# Altium footprint library my_lib.PcbLib: 9 footprints
Each footprint in its own frame and in the unit in brackets; x right, y up, seen from the top. Pads: shape width x height; smd on the part's side, far side on the other; paste and mask are expansions set on the pad; w line width, h text height; cw(c..) or ccw(c..) is an arc to the next point about the centre after c.
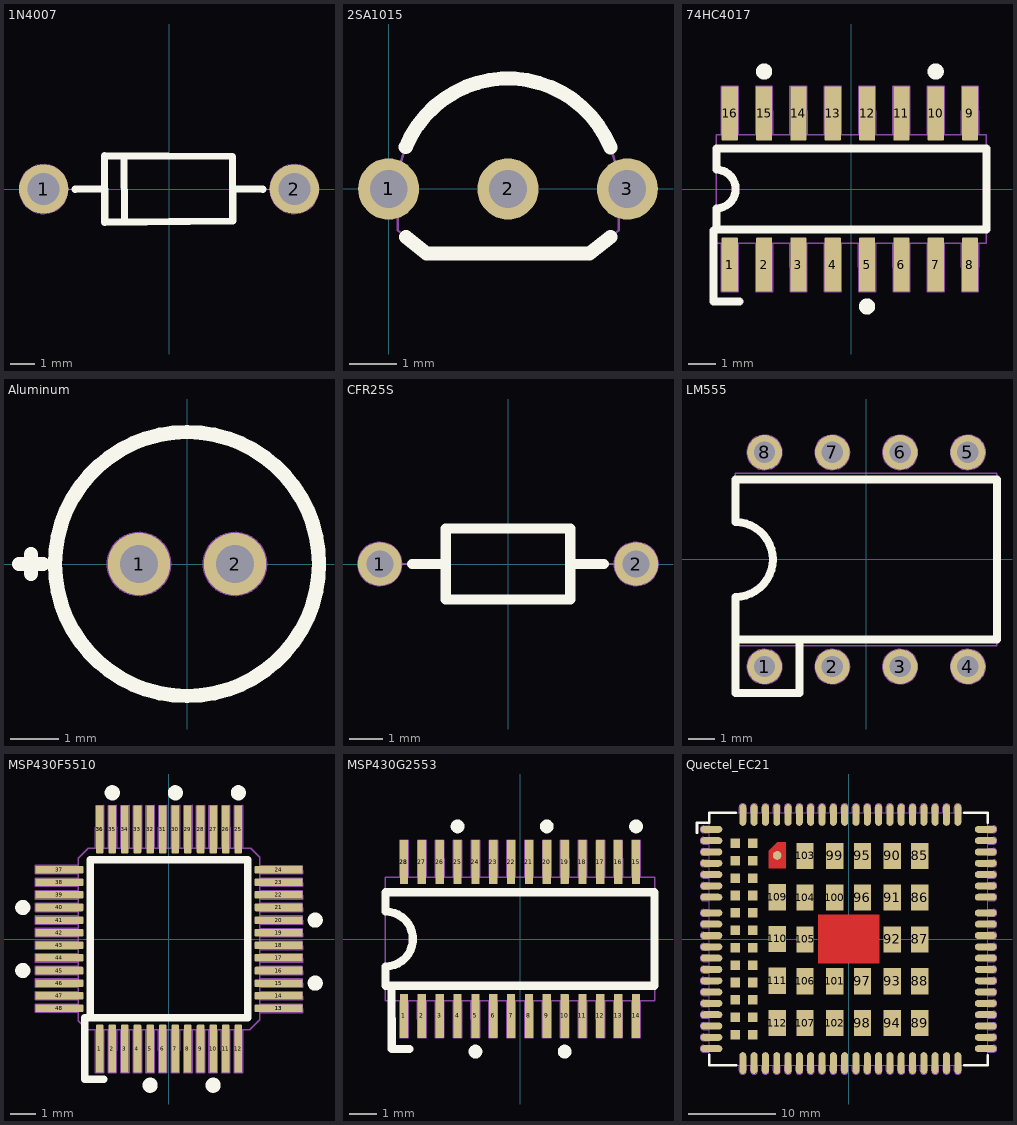
[diagram p0: the footprints below, top view; thin cyan lines are the x and y axes]

## 1N4007 [mm] "diode"
height 2.7
pads (2):
  round 2 hole 1.3 mask+0.1: 1(-5.08,0) 2(5.08,0)
Top Overlay:
  lines w0.3: -3.8,-0.015 -2.608,0.003 ; -1.825,1.295 -1.805,-1.26 ; 2.58,0.012 3.8,-0.015 ; -2.615,1.355 2.575,1.32 2.585,-1.295 -2.6,-1.35 -2.615,1.355
Top Hinh chieu bang:
  circle w0.05: c5.08,0 r1
  circle w0.05: c5.08,0 r1
  circle w0.05: c-5.08,0 r1
  lines w0.05: -4.08,0 -2.6,0 ; 2.6,0 4.08,-0.005 ; -2.6,-1.35 2.6,-1.35 2.6,1.35 -2.6,1.35 -2.6,-1.35
3D body "1N4007--3DModel-STEP-1150514.STEP": height 2.89, standoff -4.07, extent -5.475,-1.305 5.47,1.295

## 2SA1015 [mm] "TO-92"
height 4.7
pads (4):
  round 1.3 hole 0.8 mask+0.1: 1(0,0) 1(0,0) 2(2.54,0) 3(5.08,0)
Top Overlay:
  lines w0.3: 0.365,0.89 cw(c2.54,0) 4.718,0.882 ; 0.37,-1.022 0.809,-1.376 4.276,-1.376 4.718,-1.022
Top Hinh chieu bang:
  lines w0.05: 0.19,0 cw(c2.54,0) 4.89,0 4.895,-0.881 4.276,-1.376 0.809,-1.376 0.195,-0.881 0.19,0
3D body "TO-92_TOS.step": height 4.7, standoff -5.39, extent -0.273,-1.219 5.519,2.351

## 74HC4017 [mm] "SO16-SOT109-1"
height 1.75
pads (17):
  rrect10% 0.6x2 smd mask+0.1: 1(-4.5,-2.8) 1(-4.5,-2.8) 2(-3.23,-2.8) 3(-1.96,-2.8) 4(-0.69,-2.8) 5(0.58,-2.8) 6(1.85,-2.8) 7(3.12,-2.8) 8(4.39,-2.8) 9(4.39,2.8) 10(3.12,2.8) 11(1.85,2.8) 12(0.58,2.8) 13(-0.69,2.8) 14(-1.96,2.8) 15(-3.23,2.8) 16(-4.5,2.8)
Top Overlay:
  circle w0.3: c-3.23,4.348 r0.15
  circle w0.3: c0.58,-4.348 r0.15
  circle w0.3: c3.12,4.348 r0.15
  lines w0.3: -5.106,-1.542 -5.104,-2.141 ; -5.104,-2.004 -5.102,-4.17 -4.14,-4.163 ; -5,-1.498 5,-1.498 5,1.502 -5,1.502 -5,0.715 ; -5,-1.476 -5,-0.715 ; -4.995,0.715 cw(c-5,0) -4.986,-0.715
Top Hinh chieu bang:
  lines w0.05: -4.995,0.715 cw(c-5,0) -4.986,-0.715 ; -4.818,-1.999 -4.809,-3.81 -4.186,-3.795 -4.183,-2.005 ; -4.817,2.005 -4.814,3.795 -4.191,3.81 -4.182,1.999 ; -3.548,-1.999 -3.539,-3.81 -2.916,-3.795 -2.913,-2.005 ; -3.547,2.005 -3.544,3.795 -2.921,3.81 -2.912,1.999 ; -2.278,-1.999 -2.269,-3.81 -1.646,-3.795 -1.643,-2.005 ; -2.277,2.005 -2.274,3.795 -1.651,3.81 -1.642,1.999 ; -1.008,-1.999 -0.999,-3.81 -0.376,-3.795 -0.373,-2.005 ; -1.007,2.005 -1.004,3.795 -0.381,3.81 -0.372,1.999 ; 0.262,-1.999 0.271,-3.81 0.894,-3.795 0.897,-2.005 ; 0.263,2.005 0.266,3.795 0.889,3.81 0.898,1.999 ; 1.532,-1.999 1.541,-3.81 2.164,-3.795 2.167,-2.005 ; 1.533,2.005 1.536,3.795 2.159,3.81 2.168,1.999 ; 2.802,-1.999 2.811,-3.81 3.434,-3.795 3.437,-2.005 ; 2.803,2.005 2.806,3.795 3.429,3.81 3.438,1.999 ; 4.072,-1.999 4.081,-3.81 4.704,-3.795 4.707,-2.005 ; 4.073,2.005 4.076,3.795 4.699,3.81 4.708,1.999 ; -5,-2 5,-2 5,2 -5,2 -5,-2
  text "1" at -4.45,-1.8 h1
  text "8" at 4,-1.8 h1
  text "9" at 4.1,0.75 h1
  text "16" at -4.45,0.75 h1
3D body "74HC4017D,653.STEP": height 1.75, standoff 0, extent -5,-3.2 4.9,2.8

## Aluminum [mm] "10uF 50V"
height 12
pads (2):
  round 1.3 hole 0.8 mask+0.1: 1(-1,0) 2(1,0)
Top Overlay:
  circle w0.3: c0,0 r2.75
  lines w0.05: -3.25,0 -3.25,0.2
  lines w0.3: -3.5,0 -3,0 ; -3.25,-0.2 -3.25,0 -3.25,0.2
Top Hinh chieu bang:
  circle w0.05: c1,0 r0.65
  circle w0.05: c-1,0 r0.65
  circle w0.05: c0,0 r2.75
3D body "ECEA1HN100UI.STEP": height 11.2, standoff -17, extent -3.134,-3.206 3.166,3.076

## CFR25S [mm] "Resister 1/4W"
height 2.1
pads (2):
  round 1.3 hole 0.8 mask+0.1: 1(-3.81,0) 2(3.81,0)
Top Overlay:
  lines w0.3: -2.85,0 -1.85,0 ; 1.85,0 2.85,0 ; -1.85,-1.05 -1.85,1.05 1.85,1.05 1.85,-1.05 -1.85,-1.05
Top Hinh chieu bang:
  circle w0.05: c3.81,0 r0.65
  circle w0.05: c-3.81,0 r0.65
  lines w0.05: -3.16,0 -1.85,0 ; 1.85,0 3.15,0 ; -1.85,-1.05 -1.85,1.05 1.85,1.05 1.85,-1.05 -1.85,-1.05
3D body "CircuitWorks-RESISTOR 7_62MM DIP.step": height 1.99, standoff -2, extent -4.05,-0.95 4.05,1.05

## LM555 [mm] "DIP8"
height 4.2
pads (8):
  round 1.3 hole 0.8 mask+0.1: 1(-3.81,-4.012) 2(-1.27,-4.012) 3(1.27,-4.012) 4(3.81,-4.012) 5(3.81,4.013) 6(1.27,4.013) 7(-1.27,4.013) 8(-3.81,4.013)
Top Overlay:
  lines w0.3: -4.9,-1.5 -4.9,-3 ; -4.9,-1.4 ccw(c-4.9,0) -4.9,1.4 ; -4.9,1.5 -4.9,3 4.9,3 4.9,-3 -4.9,-3 ; -2.5,-3 -2.5,-5 -4.9,-5 -4.9,-3
Top Hinh chieu bang:
  circle w0.05: c3.81,-4.012 r0.65
  circle w0.05: c1.27,-4.012 r0.65
  circle w0.05: c-1.27,-4.012 r0.65
  circle w0.05: c-3.81,-4.012 r0.65
  circle w0.05: c-1.27,4.013 r0.65
  circle w0.05: c1.27,4.013 r0.65
  circle w0.05: c3.81,4.013 r0.65
  circle w0.05: c-3.81,4.013 r0.65
  lines w0.05: -4.9,-3.24 4.9,-3.24 4.9,3.24 -4.9,3.24 -4.9,1.442 cw(c-4.9,0) -4.9,-1.442 -4.9,-3.24
  text "5" at 3.65,1.75 h1
  text "4" at 3.55,-2.65 h1
  text "8" at -4.15,1.75 h1
  text "1" at -4.15,-2.65 h1
3D body "LM555CN_NOPB.STEP": height 5.08, standoff -3.18, extent -4.695,-4.195 4.895,3.995

## MSP430F5510 [mm] "PT-S-PQFP-G48"
height 1.45
pads (50):
  rrect20% 0.3x1.9 smd mask+0.05: 1(-2.75,-4.35) 2(-2.25,-4.35) 3(-1.75,-4.35) 4(-1.25,-4.35) 5(-0.75,-4.35) 6(-0.25,-4.35) 7(0.25,-4.35) 8(0.75,-4.35) 9(1.25,-4.35) 10(1.75,-4.35) 11(2.25,-4.35) 12(2.75,-4.35) 25(2.75,4.35) 26(2.25,4.35) 27(1.75,4.35) 28(1.25,4.35) 29(0.75,4.35) 30(0.25,4.35) 31(-0.25,4.35) 32(-0.75,4.35) 33(-1.25,4.35) 34(-1.75,4.35) 35(-2.25,4.35) 36(-2.75,4.35) 36(-2.75,4.35)
  rrect20% 1.9x0.3 smd mask+0.05: 13(4.35,-2.75) 13(4.35,-2.75) 14(4.35,-2.25) 15(4.35,-1.75) 16(4.35,-1.25) 17(4.35,-0.75) 18(4.35,-0.25) 19(4.35,0.25) 20(4.35,0.75) 21(4.35,1.25) 22(4.35,1.75) 23(4.35,2.25) 24(4.35,2.75) 37(-4.35,2.75) 38(-4.35,2.25) 39(-4.35,1.75) 40(-4.35,1.25) 41(-4.35,0.75) 42(-4.35,0.25) 43(-4.35,-0.25) 44(-4.35,-0.75) 45(-4.35,-1.25) 46(-4.35,-1.75) 47(-4.35,-2.25) 48(-4.35,-2.75)
Top Overlay:
  circle w0.3: c-5.8,-1.25 r0.15
  circle w0.3: c-5.8,1.25 r0.15
  circle w0.3: c-2.25,5.8 r0.15
  circle w0.3: c0.25,5.8 r0.15
  circle w0.3: c2.75,5.8 r0.15
  circle w0.3: c5.8,0.75 r0.15
  circle w0.3: c5.8,-1.75 r0.15
  circle w0.3: c1.75,-5.8 r0.15
  circle w0.3: c-0.75,-5.8 r0.15
  lines w0.3: -2.584,-5.565 -3.35,-5.565 -3.35,-3.125 -3.13,-3.125 ; -3.13,-3.125 -3.13,3.14 3.125,3.14 3.125,-3.125 -3.13,-3.125
Top Hinh chieu bang:
  drawing of 152 lines, arcs and shapes, not listed
  text "37" at -3.165,1.85 h0.5
  text "48" at -3.165,-2.51 h0.5
  text "13" at 2.342,-2.37 h0.5
  text "24" at 2.3,1.965 h0.5
  text "25" at 1.47,2.635 h0.5
  text "36" at -2.365,2.635 h0.5
  text "12" at 1.634,-3.16 h0.5
  text "1" at -2.032,-3.16 h0.5

## MSP430G2553 [mm] "PW-G28"
height 1.2
pads (29):
  rrect10% 0.3x1.6 smd mask+0.07: 1(-4.225,-2.8) 2(-3.575,-2.8) 3(-2.925,-2.8) 4(-2.275,-2.8) 5(-1.625,-2.8) 6(-0.975,-2.8) 7(-0.325,-2.8) 8(0.325,-2.8) 9(0.975,-2.8) 10(1.625,-2.8) 11(2.275,-2.8) 12(2.925,-2.8) 13(3.575,-2.8) 14(4.225,-2.8) 15(4.225,2.8) 16(3.575,2.8) 17(2.925,2.8) 18(2.275,2.8) 19(1.625,2.8) 20(0.975,2.8) 21(0.325,2.8) 22(-0.325,2.8) 23(-0.975,2.8) 24(-1.625,2.8) 25(-2.275,2.8) 26(-2.925,2.8) 27(-3.575,2.8) 28(-4.225,2.8) 28(-4.225,2.8)
Top Overlay:
  circle w0.3: c-2.275,4.1 r0.1
  circle w0.3: c0.975,4.1 r0.1
  circle w0.3: c4.225,4.1 r0.1
  circle w0.3: c1.625,-4.1 r0.1
  circle w0.3: c-1.625,-4.1 r0.1
  lines w0.3: -4.682,-1.725 -4.675,-4.006 -4.026,-4.006 ; -4.9,-1.7 -4.9,-1 ccw(c-4.9,0) -4.9,1 -4.9,1.7 4.9,1.7 4.9,-1.7 -4.9,-1.7
Top Hinh chieu bang:
  lines w0.05: -4.9,-1 ccw(c-4.9,0) -4.9,1 ; -4.378,2.266 -4.378,3.598 -4.068,3.603 -4.065,2.264 ; -4.072,-2.266 -4.072,-3.598 -4.382,-3.603 -4.385,-2.264 -4.382,-3.602 -4.072,-3.597 -4.072,-2.265 ; -3.728,2.266 -3.728,3.598 -3.418,3.603 -3.415,2.264 ; -3.422,-2.265 -3.422,-3.597 -3.732,-3.602 -3.735,-2.263 -3.732,-3.603 -3.422,-3.598 -3.422,-2.266 ; -3.078,2.266 -3.078,3.598 -2.768,3.603 -2.765,2.264 ; -2.772,-2.265 -2.772,-3.597 -3.082,-3.602 -3.085,-2.263 -3.082,-3.603 -2.772,-3.598 -2.772,-2.266 ; -2.435,-2.263 -2.432,-3.602 -2.122,-3.597 -2.122,-2.265 ; -2.435,-2.264 -2.432,-3.603 -2.122,-3.598 -2.122,-2.266 ; -2.428,2.266 -2.428,3.598 -2.118,3.603 -2.115,2.264 ; -1.785,-2.263 -1.782,-3.602 -1.472,-3.597 -1.472,-2.265 ; -1.785,-2.264 -1.782,-3.603 -1.472,-3.598 -1.472,-2.266 ; -1.778,2.266 -1.778,3.598 -1.468,3.603 -1.465,2.264 ; -1.135,-2.263 -1.132,-3.602 -0.822,-3.597 -0.822,-2.265 ; -1.135,-2.264 -1.132,-3.603 -0.822,-3.598 -0.822,-2.266 ; -1.128,2.266 -1.128,3.598 -0.818,3.603 -0.815,2.264 ; -0.478,2.266 -0.478,3.598 -0.168,3.603 -0.165,2.264 ; -0.172,-2.265 -0.172,-3.597 -0.482,-3.602 -0.485,-2.263 -0.482,-3.603 -0.172,-3.598 -0.172,-2.266 ; 0.172,2.266 0.172,3.598 0.482,3.603 0.485,2.264 ; 0.478,-2.265 0.478,-3.597 0.168,-3.602 0.165,-2.263 0.168,-3.603 0.478,-3.598 0.478,-2.266 ; 0.815,-2.263 0.818,-3.602 1.128,-3.597 1.128,-2.265 ; 0.815,-2.264 0.818,-3.603 1.128,-3.598 1.128,-2.266 ; 0.822,2.266 0.822,3.598 1.132,3.603 1.135,2.264 ; 1.465,-2.263 1.468,-3.602 1.778,-3.597 1.778,-2.265 ; 1.465,-2.264 1.468,-3.603 1.778,-3.598 1.778,-2.266 ; 1.472,2.266 1.472,3.598 1.782,3.603 1.785,2.264 ; 2.115,-2.263 2.118,-3.602 2.428,-3.597 2.428,-2.265 ; 2.115,-2.264 2.118,-3.603 2.428,-3.598 2.428,-2.266 ; 2.122,2.266 2.122,3.598 2.432,3.603 2.435,2.264 ; 2.772,2.266 2.772,3.598 3.082,3.603 3.085,2.264 ; 3.078,-2.266 3.078,-3.598 2.768,-3.603 2.765,-2.264 2.768,-3.602 3.078,-3.597 3.078,-2.265 ; 3.422,2.266 3.422,3.598 3.732,3.603 3.735,2.264 ; 3.728,-2.265 3.728,-3.597 3.418,-3.602 3.415,-2.263 3.418,-3.603 3.728,-3.598 3.728,-2.266 ; 4.072,2.266 4.072,3.598 4.382,3.603 4.385,2.264 ; 4.378,-2.265 4.378,-3.597 4.068,-3.602 4.065,-2.263 4.068,-3.603 4.378,-3.598 4.378,-2.266 ; -4.9,-2.25 4.9,-2.25 4.9,2.25 -4.9,2.25 -4.9,-2.25
  text "28" at -4.55,1.05 h1
  text "15" at 3.2,1.05 h1
  text "14" at 3.2,-2 h1
  text "1" at -3.884,-1.95 h1
3D body "MSP430G2553IPW28R--3DModel-STEP-56544.STEP": height 1.2, standoff 0, extent -4.85,-3.2 4.85,3.2

## Quectel_EC21 [mm] "Quectel_EC21 32x29x2.6mm"
height 2.6
pads (132):
  oval 2.5x0.8 smd mask+0.1: 1(-15.75,12.6) 2(-15.75,11.3) 3(-15.75,10) 4(-15.75,8.7) 5(-15.75,7.4) 6(-15.75,6.1) 7(-15.75,4.8) 08(-15.75,0.4) 09(-15.75,-0.9) 10(-15.75,-2.2) 11(-15.75,-3.5) 12(-15.75,-4.8) 13(-15.75,-6.1) 14(-15.75,-7.4) 15(-15.75,-8.7) 16(-15.75,-10) 17(-15.75,-11.3) 18(-15.75,-12.6) 37(15.75,-12.6) 38(15.75,-11.3) 39(15.75,-10) 40(15.75,-8.7) 41(15.75,-7.4) 42(15.75,-6.1) 43(15.75,-4.8) 44(15.75,-3.5) 45(15.75,-2.2) 46(15.75,-0.9) 47(15.75,0.4) 48(15.75,4.8) 49(15.75,6.1) 50(15.75,7.4) 51(15.75,8.7) 52(15.75,10) 53(15.75,11.3) 54(15.75,12.6) 141(-15.75,3) 142(-15.75,1.7) 143(15.75,1.7) 144(15.75,3)
  oval 0.8x2.5 smd mask+0.1: 19(-9.55,-14.25) 20(-8.25,-14.25) 21(-6.95,-14.25) 22(-5.65,-14.25) 23(-4.35,-14.25) 24(-3.05,-14.25) 25(-1.75,-14.25) 26(-0.45,-14.25) 27(0.85,-14.25) 28(2.15,-14.25) 29(3.45,-14.25) 30(4.75,-14.25) 31(6.05,-14.25) 32(7.35,-14.25) 33(8.65,-14.25) 34(9.95,-14.25) 35(11.25,-14.25) 36(12.55,-14.25) 55(12.55,14.25) 56(11.25,14.25) 57(9.95,14.25) 58(8.65,14.25) 59(7.35,14.25) 60(6.05,14.25) 61(4.75,14.25) 62(3.45,14.25) 63(2.15,14.25) 64(0.85,14.25) 65(-0.45,14.25) 66(-1.75,14.25) 67(-3.05,14.25) 68(-4.35,14.25) 69(-5.65,14.25) 70(-6.95,14.25) 71(-8.25,14.25) 72(-9.55,14.25) 113(-10.85,14.25) 114(-12.15,14.25) 115(-10.85,-14.25) 116(-12.15,-14.25)
  rect 2x3 smd: 85(8.2,9.55) 86(8.2,4.75) 87(8.2,-0.05) 88(8.2,-4.85) 89(8.2,-9.65) 90(5,9.55) 91(5,4.75) 92(5,-0.05) 93(5,-4.85) 94(5,-9.65) 95(1.6,9.55) 96(1.6,4.75) 97(1.6,-4.85) 98(1.6,-9.65) 99(-1.6,9.55) 100(-1.6,4.75) 101(-1.6,-4.85) 102(-1.6,-9.65) 103(-5,9.55) 104(-5,4.75) 105(-5,-0.05) 106(-5,-4.85) 107(-5,-9.65) 109(-8.2,4.8) 110(-8.2,0) 111(-8.2,-4.8) 112(-8.2,-9.65)
  round 1 smd: 108(-8.2,9.6)
  rect 1.1x1.1 smd mask+0.1: 117(-11,11) 118(-11,9) 119(-11,7) 120(-11,5) 121(-11,3) 122(-11,1) 123(-11,-1) 124(-11,-3) 125(-11,-5) 126(-11,-7) 127(-11,-9) 128(-11,-11) 129(-13,11) 130(-13,9) 131(-13,7) 132(-13,5) 133(-13,3) 134(-13,1) 135(-13,-1) 136(-13,-3) 137(-13,-5) 138(-13,-7) 139(-13,-9) 140(-13,-11)
Top Layer:
  region: -9.19,8.115 -7.19,8.115 -7.19,11.115 -8.19,11.115 -9.19,10.115
  pour cut-out: -3.5,2.8 3.5,2.8 3.5,-2.8 -3.5,-2.8
Top Overlay:
  lines w0.3: -17.411,12.189 -17.411,13.349 -16.007,13.349 -16.007,14.509 -12.965,14.509 ; -16.006,-13.309 -16.006,-14.508 -12.902,-14.508 ; 13.286,14.504 15.993,14.504 15.993,13.341 ; 13.301,-14.492 15.991,-14.492 15.991,-13.338
Top Paste:
  region: -9.19,8.115 -7.19,8.115 -7.19,11.115 -8.19,11.115 -9.19,10.115
Top Solder:
  region: -9.276,8.009 -7.092,8.009 -7.092,11.175 -8.283,11.175 -9.276,10.183
Top Hinh chieu bang:
  drawing of 262 lines, arcs and shapes, not listed
  text "54" at 12.479,11.488 h1
  text "1" at -14.142,11.958 h1
  text "18" at -14.134,-12.842 h1
  text "114" at -12.928,12.998 h1
  text "55" at 10.225,12.998 h1
  text "37" at 12.309,-12.687 h1
  text "36" at 10.392,-14.13 h1
  text "116" at -12.543,-14.13 h1